# EAGLE library part MAX9130EXT+T (library encoder)
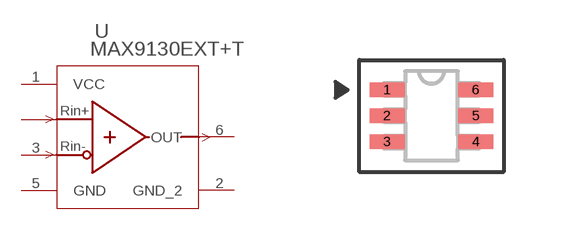
[diagram p2: symbol with the pads of 21-0077G_MXM; footprint 21-0077G_MXM]

Designator prefix U

## MAX9130EXT+T (COPYRIGHT: Copyright (C) 2021 Ultra Librarian. All rights reserved.; MF: Maxim Integrated Products; MPN: MAX9130EXT+T)  [21-0077G_MXM]
1  VCC  pwr
2  GND_2  pwr
3  IN-  in
4  IN+  in
5  GND  pwr
6  OUT  out

## Footprint 21-0077G_MXM (pad centres in mm)
smd 0.871 x 0.355: 1 -1.108,0.65; 2 -1.108,0; 3 -1.108,-0.65; 4 1.108,-0.65; 5 1.108,0; 6 1.108,0.65